# Altium schematic symbol library WE-LQSA.SchLib: 41 symbols
Pins are listed as number, name and electrical type; pins without a type are passive.

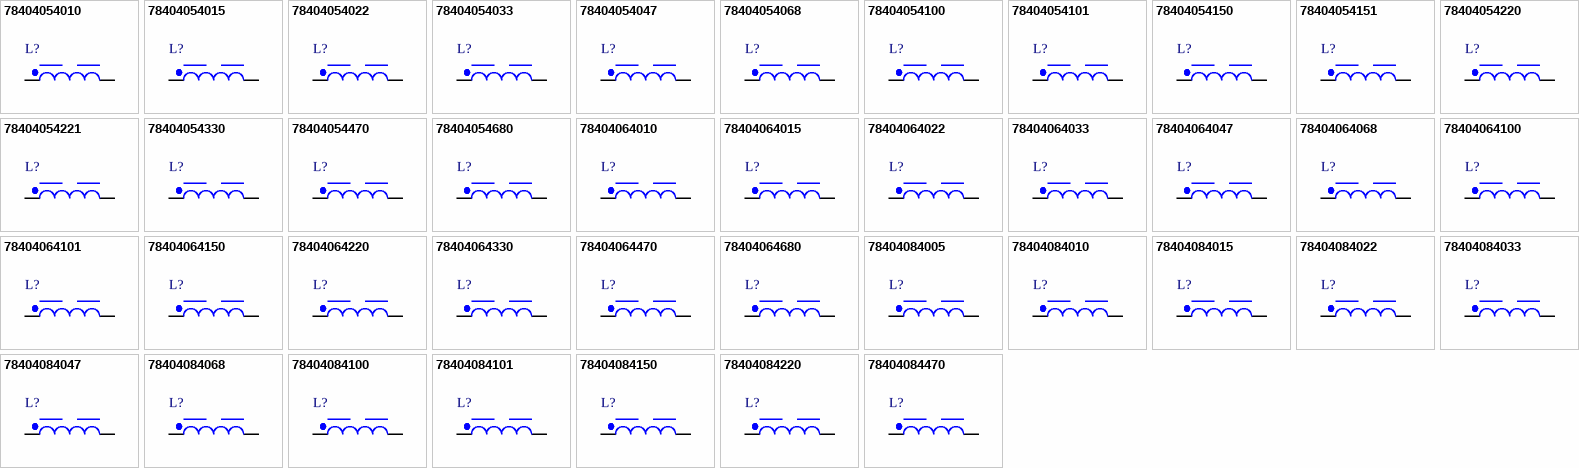
[diagram p0: symbols 78404054010 to 78404084470]

## 78404054010
designator L?, comment 1uH  (value not drawn)
WE-LQSA SMD Semi-Shielded Power Inductor, size 5040, 1uH, 14mohm; Manufacturer Part Number: 78404054010; Manufacturer: Wurth Elektronik; Case/Size Code: 5040; Rated Current: 5.7A; Saturation Current: 7.4A; Self Resonant Frequency: 187MHz; Category: Power Inductors; Match Code: WE-LQSA; ComponentLink1Description: Website Link; ComponentLink1URL: https://www.we-online.com; ComponentLink2Description: Datasheet Link; ComponentLink2URL: https://www.we-online.com/components/products/datasheet/78404054010; Mount: Surface Mount; Operating Temperature Min: -50degC; Operating Temperature Max: 150degC; Packaging: Tape and Reel; Length: 5mm; Width: 5mm; Height: 4mm; DC Resistance Max: 14mohm; Inductance: 1uH
footprint WE-LQSA_5040_IPC
footprint WE-LQSA_5040
simulation model 5040_78404054010_1u
pins: 1, 2

## 78404054015
designator L?, comment 1.5uH  (value not drawn)
WE-LQSA SMD Semi-Shielded Power Inductor, size 5040, 1.5uH, 18mohm; Manufacturer Part Number: 78404054015; Manufacturer: Wurth Elektronik; Case/Size Code: 5040; Rated Current: 5.22A; Saturation Current: 6A; Self Resonant Frequency: 137MHz; Category: Power Inductors; Match Code: WE-LQSA; ComponentLink1Description: Website Link; ComponentLink1URL: https://www.we-online.com; ComponentLink2Description: Datasheet Link; ComponentLink2URL: https://www.we-online.com/components/products/datasheet/78404054015; Mount: Surface Mount; Operating Temperature Min: -50degC; Operating Temperature Max: 150degC; Packaging: Tape and Reel; Length: 5mm; Width: 5mm; Height: 4mm; DC Resistance Max: 18mohm; Inductance: 1.5uH
footprint WE-LQSA_5040_IPC
footprint WE-LQSA_5040
simulation model 5040_78404054015_1.5u
pins: 1, 2

## 78404054022
designator L?, comment 2.2uH  (value not drawn)
WE-LQSA SMD Semi-Shielded Power Inductor, size 5040, 2.2uH, 23mohm; Manufacturer Part Number: 78404054022; Manufacturer: Wurth Elektronik; Case/Size Code: 5040; Rated Current: 4.54A; Saturation Current: 5.3A; Self Resonant Frequency: 77MHz; Category: Power Inductors; Match Code: WE-LQSA; ComponentLink1Description: Website Link; ComponentLink1URL: https://www.we-online.com; ComponentLink2Description: Datasheet Link; ComponentLink2URL: https://www.we-online.com/components/products/datasheet/78404054022; Mount: Surface Mount; Operating Temperature Min: -50degC; Operating Temperature Max: 150degC; Packaging: Tape and Reel; Length: 5mm; Width: 5mm; Height: 4mm; DC Resistance Max: 23mohm; Inductance: 2.2uH
footprint WE-LQSA_5040_IPC
footprint WE-LQSA_5040
simulation model 5040_78404054022_2.2u
pins: 1, 2

## 78404054033
designator L?, comment 3.3uH  (value not drawn)
WE-LQSA SMD Semi-Shielded Power Inductor, size 5040, 3.3uH, 29mohm; Manufacturer Part Number: 78404054033; Manufacturer: Wurth Elektronik; Case/Size Code: 5040; Rated Current: 4.06A; Saturation Current: 4.3A; Self Resonant Frequency: 48MHz; Category: Power Inductors; Match Code: WE-LQSA; ComponentLink1Description: Website Link; ComponentLink1URL: https://www.we-online.com; ComponentLink2Description: Datasheet Link; ComponentLink2URL: https://www.we-online.com/components/products/datasheet/78404054033; Mount: Surface Mount; Operating Temperature Min: -50degC; Operating Temperature Max: 150degC; Packaging: Tape and Reel; Length: 5mm; Width: 5mm; Height: 4mm; DC Resistance Max: 29mohm; Inductance: 3.3uH
footprint WE-LQSA_5040_IPC
footprint WE-LQSA_5040
simulation model 5040_78404054033_3.3u
pins: 1, 2

## 78404054047
designator L?, comment 4.7uH  (value not drawn)
WE-LQSA SMD Semi-Shielded Power Inductor, size 5040, 4.7uH, 36mohm; Manufacturer Part Number: 78404054047; Manufacturer: Wurth Elektronik; Case/Size Code: 5040; Rated Current: 3.64A; Saturation Current: 3.8A; Self Resonant Frequency: 43MHz; Category: Power Inductors; Match Code: WE-LQSA; ComponentLink1Description: Website Link; ComponentLink1URL: https://www.we-online.com; ComponentLink2Description: Datasheet Link; ComponentLink2URL: https://www.we-online.com/components/products/datasheet/78404054047; Mount: Surface Mount; Operating Temperature Min: -50degC; Operating Temperature Max: 150degC; Packaging: Tape and Reel; Length: 5mm; Width: 5mm; Height: 4mm; DC Resistance Max: 36mohm; Inductance: 4.7uH
footprint WE-LQSA_5040_IPC
footprint WE-LQSA_5040
simulation model 5040_78404054047_4.7u
pins: 1, 2

## 78404054068
designator L?, comment 6.8uH  (value not drawn)
WE-LQSA SMD Semi-Shielded Power Inductor, size 5040, 6.8uH, 52mohm; Manufacturer Part Number: 78404054068; Manufacturer: Wurth Elektronik; Case/Size Code: 5040; Rated Current: 3.01A; Saturation Current: 3.2A; Self Resonant Frequency: 35MHz; Category: Power Inductors; Match Code: WE-LQSA; ComponentLink1Description: Website Link; ComponentLink1URL: https://www.we-online.com; ComponentLink2Description: Datasheet Link; ComponentLink2URL: https://www.we-online.com/components/products/datasheet/78404054068; Mount: Surface Mount; Operating Temperature Min: -50degC; Operating Temperature Max: 150degC; Packaging: Tape and Reel; Length: 5mm; Width: 5mm; Height: 4mm; DC Resistance Max: 52mohm; Inductance: 6.8uH
footprint WE-LQSA_5040_IPC
footprint WE-LQSA_5040
simulation model 5040_78404054068_6.8u
pins: 1, 2

## 78404054100
designator L?, comment 10uH  (value not drawn)
WE-LQSA SMD Semi-Shielded Power Inductor, size 5040, 10uH, 82mohm; Manufacturer Part Number: 78404054100; Manufacturer: Wurth Elektronik; Case/Size Code: 5040; Rated Current: 2.45A; Saturation Current: 2.5A; Self Resonant Frequency: 26MHz; Category: Power Inductors; Match Code: WE-LQSA; ComponentLink1Description: Website Link; ComponentLink1URL: https://www.we-online.com; ComponentLink2Description: Datasheet Link; ComponentLink2URL: https://www.we-online.com/components/products/datasheet/78404054100; Mount: Surface Mount; Operating Temperature Min: -50degC; Operating Temperature Max: 150degC; Packaging: Tape and Reel; Length: 5mm; Width: 5mm; Height: 4mm; DC Resistance Max: 82mohm; Inductance: 10uH
footprint WE-LQSA_5040_IPC
footprint WE-LQSA_5040
simulation model 5040_78404054100_10u
pins: 1, 2

## 78404054101
designator L?, comment 100uH  (value not drawn)
WE-LQSA SMD Semi-Shielded Power Inductor, size 5040, 100uH, 720mohm; Manufacturer Part Number: 78404054101; Manufacturer: Wurth Elektronik; Case/Size Code: 5040; Rated Current: 0.82A; Self Resonant Frequency: 7MHz; Category: Power Inductors; Match Code: WE-LQSA; ComponentLink1Description: Website Link; ComponentLink1URL: https://www.we-online.com; ComponentLink2Description: Datasheet Link; ComponentLink2URL: https://www.we-online.com/components/products/datasheet/78404054101; Mount: Surface Mount; Operating Temperature Min: -50degC; Operating Temperature Max: 150degC; Packaging: Tape and Reel; Length: 5mm; Width: 5mm; Height: 4mm; DC Resistance Max: 720mohm; Inductance: 100uH; Saturation Current: 0.82A
footprint WE-LQSA_5040_IPC
footprint WE-LQSA_5040
simulation model 5040_78404054101_100u
pins: 1, 2

## 78404054150
designator L?, comment 15uH  (value not drawn)
WE-LQSA SMD Semi-Shielded Power Inductor, size 5040, 15uH, 108mohm; Manufacturer Part Number: 78404054150; Manufacturer: Wurth Elektronik; Case/Size Code: 5040; Rated Current: 2.01A; Saturation Current: 2.2A; Self Resonant Frequency: 22MHz; Category: Power Inductors; Match Code: WE-LQSA; ComponentLink1Description: Website Link; ComponentLink1URL: https://www.we-online.com; ComponentLink2Description: Datasheet Link; ComponentLink2URL: https://www.we-online.com/components/products/datasheet/78404054150; Mount: Surface Mount; Operating Temperature Min: -50degC; Operating Temperature Max: 150degC; Packaging: Tape and Reel; Length: 5mm; Width: 5mm; Height: 4mm; DC Resistance Max: 108mohm; Inductance: 15uH
footprint WE-LQSA_5040_IPC
footprint WE-LQSA_5040
simulation model 5040_78404054150_15u
pins: 1, 2

## 78404054151
designator L?, comment 150uH  (value not drawn)
WE-LQSA SMD Semi-Shielded Power Inductor, size 5040, 150uH, 972mohm; Manufacturer Part Number: 78404054151; Manufacturer: Wurth Elektronik; Case/Size Code: 5040; Rated Current: 0.67A; Saturation Current: 0.72A; Self Resonant Frequency: 6.3MHz; Category: Power Inductors; Match Code: WE-LQSA; ComponentLink1Description: Website Link; ComponentLink1URL: https://www.we-online.com; ComponentLink2Description: Datasheet Link; ComponentLink2URL: https://www.we-online.com/components/products/datasheet/78404054151; Mount: Surface Mount; Operating Temperature Min: -50degC; Operating Temperature Max: 150degC; Packaging: Tape and Reel; Length: 5mm; Width: 5mm; Height: 4mm; DC Resistance Max: 972mohm; Inductance: 150uH
footprint WE-LQSA_5040_IPC
footprint WE-LQSA_5040
simulation model 5040_78404054151_150u
pins: 1, 2

## 78404054220
designator L?, comment 22uH  (value not drawn)
WE-LQSA SMD Semi-Shielded Power Inductor, size 5040, 22uH, 155mohm; Manufacturer Part Number: 78404054220; Manufacturer: Wurth Elektronik; Case/Size Code: 5040; Rated Current: 1.75A; Saturation Current: 1.7A; Self Resonant Frequency: 17MHz; Category: Power Inductors; Match Code: WE-LQSA; ComponentLink1Description: Website Link; ComponentLink1URL: https://www.we-online.com; ComponentLink2Description: Datasheet Link; ComponentLink2URL: https://www.we-online.com/components/products/datasheet/78404054220; Mount: Surface Mount; Operating Temperature Min: -50degC; Operating Temperature Max: 150degC; Packaging: Tape and Reel; Length: 5mm; Width: 5mm; Height: 4mm; DC Resistance Max: 155mohm; Inductance: 22uH
footprint WE-LQSA_5040_IPC
footprint WE-LQSA_5040
simulation model 5040_78404054220_22u
pins: 1, 2

## 78404054221
designator L?, comment 220uH  (value not drawn)
WE-LQSA SMD Semi-Shielded Power Inductor, size 5040, 220uH, 1680mohm; Manufacturer Part Number: 78404054221; Manufacturer: Wurth Elektronik; Case/Size Code: 5040; Rated Current: 0.56A; Saturation Current: 0.55A; Self Resonant Frequency: 4.5MHz; Category: Power Inductors; Match Code: WE-LQSA; ComponentLink1Description: Website Link; ComponentLink1URL: https://www.we-online.com; ComponentLink2Description: Datasheet Link; ComponentLink2URL: https://www.we-online.com/components/products/datasheet/78404054221; Mount: Surface Mount; Operating Temperature Min: -50degC; Operating Temperature Max: 150degC; Packaging: Tape and Reel; Length: 5mm; Width: 5mm; Height: 4mm; DC Resistance Max: 1680mohm; Inductance: 220uH
footprint WE-LQSA_5040_IPC
footprint WE-LQSA_5040
simulation model 5040_78404054221_220u
pins: 1, 2

## 78404054330
designator L?, comment 33uH  (value not drawn)
WE-LQSA SMD Semi-Shielded Power Inductor, size 5040, 33uH, 226mohm; Manufacturer Part Number: 78404054330; Manufacturer: Wurth Elektronik; Case/Size Code: 5040; Rated Current: 1.43A; Saturation Current: 1.4A; Self Resonant Frequency: 13MHz; Category: Power Inductors; Match Code: WE-LQSA; ComponentLink1Description: Website Link; ComponentLink1URL: https://www.we-online.com; ComponentLink2Description: Datasheet Link; ComponentLink2URL: https://www.we-online.com/components/products/datasheet/78404054330; Mount: Surface Mount; Operating Temperature Min: -50degC; Operating Temperature Max: 150degC; Packaging: Tape and Reel; Length: 5mm; Width: 5mm; Height: 4mm; DC Resistance Max: 226mohm; Inductance: 33uH
footprint WE-LQSA_5040_IPC
footprint WE-LQSA_5040
simulation model 5040_78404054330_33u
pins: 1, 2

## 78404054470
designator L?, comment 47uH  (value not drawn)
WE-LQSA SMD Semi-Shielded Power Inductor, size 5040, 47uH, 348mohm; Manufacturer Part Number: 78404054470; Manufacturer: Wurth Elektronik; Case/Size Code: 5040; Rated Current: 1.19A; Saturation Current: 1.2A; Self Resonant Frequency: 10MHz; Category: Power Inductors; Match Code: WE-LQSA; ComponentLink1Description: Website Link; ComponentLink1URL: https://www.we-online.com; ComponentLink2Description: Datasheet Link; ComponentLink2URL: https://www.we-online.com/components/products/datasheet/78404054470; Mount: Surface Mount; Operating Temperature Min: -50degC; Operating Temperature Max: 150degC; Packaging: Tape and Reel; Length: 5mm; Width: 5mm; Height: 4mm; DC Resistance Max: 348mohm; Inductance: 47uH
footprint WE-LQSA_5040_IPC
footprint WE-LQSA_5040
simulation model 5040_78404054470_47u
pins: 1, 2

## 78404054680
designator L?, comment 68uH  (value not drawn)
WE-LQSA SMD Semi-Shielded Power Inductor, size 5040, 68uH, 516mohm; Manufacturer Part Number: 78404054680; Manufacturer: Wurth Elektronik; Case/Size Code: 5040; Rated Current: 0.97A; Saturation Current: 0.99A; Self Resonant Frequency: 9MHz; Category: Power Inductors; Match Code: WE-LQSA; ComponentLink1Description: Website Link; ComponentLink1URL: https://www.we-online.com; ComponentLink2Description: Datasheet Link; ComponentLink2URL: https://www.we-online.com/components/products/datasheet/78404054680; Mount: Surface Mount; Operating Temperature Min: -50degC; Operating Temperature Max: 150degC; Packaging: Tape and Reel; Length: 5mm; Width: 5mm; Height: 4mm; DC Resistance Max: 516mohm; Inductance: 68uH
footprint WE-LQSA_5040_IPC
footprint WE-LQSA_5040
simulation model 5040_78404054680_68u
pins: 1, 2

## 78404064010
designator L?, comment 1uH  (value not drawn)
WE-LQSA SMD Semi-Shielded Power Inductor, size 6045, 1uH, 11mohm; Manufacturer Part Number: 78404064010; Manufacturer: Wurth Elektronik; Case/Size Code: 6045; Rated Current: 6.7A; Saturation Current: 11.5A; Self Resonant Frequency: 159MHz; Category: Power Inductors; Match Code: WE-LQSA; ComponentLink1Description: Website Link; ComponentLink1URL: https://www.we-online.com; ComponentLink2Description: Datasheet Link; ComponentLink2URL: https://www.we-online.com/components/products/datasheet/78404064010; Mount: Surface Mount; Operating Temperature Min: -50degC; Operating Temperature Max: 150degC; Packaging: Tape and Reel; Length: 6mm; Width: 6mm; Height: 4.6mm; DC Resistance Max: 11mohm; Inductance: 1uH
footprint WE-LQSA_6045_IPC
footprint WE-LQSA_6045
simulation model 6045_78404064010_1u
pins: 1, 2

## 78404064015
designator L?, comment 1.5uH  (value not drawn)
WE-LQSA SMD Semi-Shielded Power Inductor, size 6045, 1.5uH, 13mohm; Manufacturer Part Number: 78404064015; Manufacturer: Wurth Elektronik; Case/Size Code: 6045; Rated Current: 6.1A; Saturation Current: 9.7A; Self Resonant Frequency: 115MHz; Category: Power Inductors; Match Code: WE-LQSA; ComponentLink1Description: Website Link; ComponentLink1URL: https://www.we-online.com; ComponentLink2Description: Datasheet Link; ComponentLink2URL: https://www.we-online.com/components/products/datasheet/78404064015; Mount: Surface Mount; Operating Temperature Min: -50degC; Operating Temperature Max: 150degC; Packaging: Tape and Reel; Length: 6mm; Width: 6mm; Height: 4.6mm; DC Resistance Max: 13mohm; Inductance: 1.5uH
footprint WE-LQSA_6045_IPC
footprint WE-LQSA_6045
simulation model 6045_78404064015_1.5u
pins: 1, 2

## 78404064022
designator L?, comment 2.2uH  (value not drawn)
WE-LQSA SMD Semi-Shielded Power Inductor, size 6045, 2.2uH, 17mohm; Manufacturer Part Number: 78404064022; Manufacturer: Wurth Elektronik; Case/Size Code: 6045; Rated Current: 5.3A; Saturation Current: 8.1A; Self Resonant Frequency: 60MHz; Category: Power Inductors; Match Code: WE-LQSA; ComponentLink1Description: Website Link; ComponentLink1URL: https://www.we-online.com; ComponentLink2Description: Datasheet Link; ComponentLink2URL: https://www.we-online.com/components/products/datasheet/78404064022; Mount: Surface Mount; Operating Temperature Min: -50degC; Operating Temperature Max: 150degC; Packaging: Tape and Reel; Length: 6mm; Width: 6mm; Height: 4.6mm; DC Resistance Max: 17mohm; Inductance: 2.2uH
footprint WE-LQSA_6045_IPC
footprint WE-LQSA_6045
simulation model 6045_78404064022_2.2u
pins: 1, 2

## 78404064033
designator L?, comment 3.3uH  (value not drawn)
WE-LQSA SMD Semi-Shielded Power Inductor, size 6045, 3.3uH, 28mohm; Manufacturer Part Number: 78404064033; Manufacturer: Wurth Elektronik; Case/Size Code: 6045; Rated Current: 4.1A; Saturation Current: 6.5A; Self Resonant Frequency: 42MHz; Category: Power Inductors; Match Code: WE-LQSA; ComponentLink1Description: Website Link; ComponentLink1URL: https://www.we-online.com; ComponentLink2Description: Datasheet Link; ComponentLink2URL: https://www.we-online.com/components/products/datasheet/78404064033; Mount: Surface Mount; Operating Temperature Min: -50degC; Operating Temperature Max: 150degC; Packaging: Tape and Reel; Length: 6mm; Width: 6mm; Height: 4.6mm; DC Resistance Max: 28mohm; Inductance: 3.3uH
footprint WE-LQSA_6045_IPC
footprint WE-LQSA_6045
simulation model 6045_78404064033_3.3u
pins: 1, 2

## 78404064047
designator L?, comment 4.7uH  (value not drawn)
WE-LQSA SMD Semi-Shielded Power Inductor, size 6045, 4.7uH, 34mohm; Manufacturer Part Number: 78404064047; Manufacturer: Wurth Elektronik; Case/Size Code: 6045; Rated Current: 3.7A; Saturation Current: 5.5A; Self Resonant Frequency: 36MHz; Category: Power Inductors; Match Code: WE-LQSA; ComponentLink1Description: Website Link; ComponentLink1URL: https://www.we-online.com; ComponentLink2Description: Datasheet Link; ComponentLink2URL: https://www.we-online.com/components/products/datasheet/78404064047; Mount: Surface Mount; Operating Temperature Min: -50degC; Operating Temperature Max: 150degC; Packaging: Tape and Reel; Length: 6mm; Width: 6mm; Height: 4.6mm; DC Resistance Max: 34mohm; Inductance: 4.7uH
footprint WE-LQSA_6045_IPC
footprint WE-LQSA_6045
simulation model 6045_78404064047_4.7u
pins: 1, 2

## 78404064068
designator L?, comment 6.8uH  (value not drawn)
WE-LQSA SMD Semi-Shielded Power Inductor, size 6045, 6.8uH, 42mohm; Manufacturer Part Number: 78404064068; Manufacturer: Wurth Elektronik; Case/Size Code: 6045; Rated Current: 3.3A; Saturation Current: 4.3A; Self Resonant Frequency: 27MHz; Category: Power Inductors; Match Code: WE-LQSA; ComponentLink1Description: Website Link; ComponentLink1URL: https://www.we-online.com; ComponentLink2Description: Datasheet Link; ComponentLink2URL: https://www.we-online.com/components/products/datasheet/78404064068; Mount: Surface Mount; Operating Temperature Min: -50degC; Operating Temperature Max: 150degC; Packaging: Tape and Reel; Length: 6mm; Width: 6mm; Height: 4.6mm; DC Resistance Max: 42mohm; Inductance: 6.8uH
footprint WE-LQSA_6045_IPC
footprint WE-LQSA_6045
simulation model 6045_78404064068_6.8u
pins: 1, 2

## 78404064100
designator L?, comment 10uH  (value not drawn)
WE-LQSA SMD Semi-Shielded Power Inductor, size 6045, 10uH, 58mohm; Manufacturer Part Number: 78404064100; Manufacturer: Wurth Elektronik; Case/Size Code: 6045; Rated Current: 2.8A; Saturation Current: 3.5A; Self Resonant Frequency: 22MHz; Category: Power Inductors; Match Code: WE-LQSA; ComponentLink1Description: Website Link; ComponentLink1URL: https://www.we-online.com; ComponentLink2Description: Datasheet Link; ComponentLink2URL: https://www.we-online.com/components/products/datasheet/78404064100; Mount: Surface Mount; Operating Temperature Min: -50degC; Operating Temperature Max: 150degC; Packaging: Tape and Reel; Length: 6mm; Width: 6mm; Height: 4.6mm; DC Resistance Max: 58mohm; Inductance: 10uH
footprint WE-LQSA_6045_IPC
footprint WE-LQSA_6045
simulation model 6045_78404064100_10u
pins: 1, 2

## 78404064101
designator L?, comment 100uH  (value not drawn)
WE-LQSA SMD Semi-Shielded Power Inductor, size 6045, 100uH, 532mohm; Manufacturer Part Number: 78404064101; Manufacturer: Wurth Elektronik; Case/Size Code: 6045; Rated Current: 0.9A; Saturation Current: 1.2A; Self Resonant Frequency: 6MHz; Category: Power Inductors; Match Code: WE-LQSA; ComponentLink1Description: Website Link; ComponentLink1URL: https://www.we-online.com; ComponentLink2Description: Datasheet Link; ComponentLink2URL: https://www.we-online.com/components/products/datasheet/78404064101; Mount: Surface Mount; Operating Temperature Min: -50degC; Operating Temperature Max: 150degC; Packaging: Tape and Reel; Length: 6mm; Width: 6mm; Height: 4.6mm; DC Resistance Max: 532mohm; Inductance: 100uH
footprint WE-LQSA_6045_IPC
footprint WE-LQSA_6045
simulation model 6045_78404064101_100u
pins: 1, 2

## 78404064150
designator L?, comment 15uH  (value not drawn)
WE-LQSA SMD Semi-Shielded Power Inductor, size 6045, 15uH, 88mohm; Manufacturer Part Number: 78404064150; Manufacturer: Wurth Elektronik; Case/Size Code: 6045; Rated Current: 2.4A; Saturation Current: 3A; Self Resonant Frequency: 17MHz; Category: Power Inductors; Match Code: WE-LQSA; ComponentLink1Description: Website Link; ComponentLink1URL: https://www.we-online.com; ComponentLink2Description: Datasheet Link; ComponentLink2URL: https://www.we-online.com/components/products/datasheet/78404064150; Mount: Surface Mount; Operating Temperature Min: -50degC; Operating Temperature Max: 150degC; Packaging: Tape and Reel; Length: 6mm; Width: 6mm; Height: 4.6mm; DC Resistance Max: 88mohm; Inductance: 15uH
footprint WE-LQSA_6045_IPC
footprint WE-LQSA_6045
simulation model 6045_78404064150_15u
pins: 1, 2

## 78404064220
designator L?, comment 22uH  (value not drawn)
WE-LQSA SMD Semi-Shielded Power Inductor, size 6045, 22uH, 120mohm; Manufacturer Part Number: 78404064220; Manufacturer: Wurth Elektronik; Case/Size Code: 6045; Rated Current: 1.9A; Saturation Current: 2.5A; Self Resonant Frequency: 15MHz; Category: Power Inductors; Match Code: WE-LQSA; ComponentLink1Description: Website Link; ComponentLink1URL: https://www.we-online.com; ComponentLink2Description: Datasheet Link; ComponentLink2URL: https://www.we-online.com/components/products/datasheet/78404064220; Mount: Surface Mount; Operating Temperature Min: -50degC; Operating Temperature Max: 150degC; Packaging: Tape and Reel; Length: 6mm; Width: 6mm; Height: 4.6mm; DC Resistance Max: 120mohm; Inductance: 22uH
footprint WE-LQSA_6045_IPC
footprint WE-LQSA_6045
simulation model 6045_78404064220_22u
pins: 1, 2

## 78404064330
designator L?, comment 33uH  (value not drawn)
WE-LQSA SMD Semi-Shielded Power Inductor, size 6045, 33uH, 168mohm; Manufacturer Part Number: 78404064330; Manufacturer: Wurth Elektronik; Case/Size Code: 6045; Rated Current: 1.7A; Saturation Current: 2A; Self Resonant Frequency: 12MHz; Category: Power Inductors; Match Code: WE-LQSA; ComponentLink1Description: Website Link; ComponentLink1URL: https://www.we-online.com; ComponentLink2Description: Datasheet Link; ComponentLink2URL: https://www.we-online.com/components/products/datasheet/78404064330; Mount: Surface Mount; Operating Temperature Min: -50degC; Operating Temperature Max: 150degC; Packaging: Tape and Reel; Length: 6mm; Width: 6mm; Height: 4.6mm; DC Resistance Max: 168mohm; Inductance: 33uH
footprint WE-LQSA_6045_IPC
footprint WE-LQSA_6045
simulation model 6045_78404064330_33u
pins: 1, 2

## 78404064470
designator L?, comment 47uH  (value not drawn)
WE-LQSA SMD Semi-Shielded Power Inductor, size 6045, 47uH, 252mohm; Manufacturer Part Number: 78404064470; Manufacturer: Wurth Elektronik; Case/Size Code: 6045; Rated Current: 1.4A; Saturation Current: 1.6A; Self Resonant Frequency: 10MHz; Category: Power Inductors; Match Code: WE-LQSA; ComponentLink1Description: Website Link; ComponentLink1URL: https://www.we-online.com; ComponentLink2Description: Datasheet Link; ComponentLink2URL: https://www.we-online.com/components/products/datasheet/78404064470; Mount: Surface Mount; Operating Temperature Min: -50degC; Operating Temperature Max: 150degC; Packaging: Tape and Reel; Length: 6mm; Width: 6mm; Height: 4.6mm; DC Resistance Max: 252mohm; Inductance: 47uH
footprint WE-LQSA_6045_IPC
footprint WE-LQSA_6045
simulation model 6045_78404064470_47u
pins: 1, 2

## 78404064680
designator L?, comment 68uH  (value not drawn)
WE-LQSA SMD Semi-Shielded Power Inductor, size 6045, 68uH, 367mohm; Manufacturer Part Number: 78404064680; Manufacturer: Wurth Elektronik; Case/Size Code: 6045; Rated Current: 1.1A; Saturation Current: 1.4A; Self Resonant Frequency: 8MHz; Category: Power Inductors; Match Code: WE-LQSA; ComponentLink1Description: Website Link; ComponentLink1URL: https://www.we-online.com; ComponentLink2Description: Datasheet Link; ComponentLink2URL: https://www.we-online.com/components/products/datasheet/78404064680; Mount: Surface Mount; Operating Temperature Min: -50degC; Operating Temperature Max: 150degC; Packaging: Tape and Reel; Length: 6mm; Width: 6mm; Height: 4.6mm; DC Resistance Max: 367mohm; Inductance: 68uH
footprint WE-LQSA_6045_IPC
footprint WE-LQSA_6045
simulation model 6045_78404064680_68u
pins: 1, 2

## 78404084005
designator L?, comment 0.5uH  (value not drawn)
WE-LQSA SMD Semi-Shielded Power Inductor, size 8040, 0.5uH, 8.4mohm; Manufacturer Part Number: 78404084005; Manufacturer: Wurth Elektronik; Case/Size Code: 8040; Rated Current: 8.7A; Saturation Current: 18.5A; Self Resonant Frequency: 189MHz; Category: Power Inductors; Match Code: WE-LQSA; ComponentLink1Description: Website Link; ComponentLink1URL: https://www.we-online.com; ComponentLink2Description: Datasheet Link; ComponentLink2URL: https://www.we-online.com/components/products/datasheet/78404084005; Mount: Surface Mount; Operating Temperature Min: -50degC; Operating Temperature Max: 150degC; Packaging: Tape and Reel; Length: 8mm; Width: 8mm; Height: 4.2mm; DC Resistance Max: 8.4mohm; Inductance: 0.5uH
footprint WE-LQSA_8040_IPC
footprint WE-LQSA_8040
pins: 1, 2

## 78404084010
designator L?, comment 1uH  (value not drawn)
WE-LQSA SMD Semi-Shielded Power Inductor, size 8040, 1uH, 10mohm; Manufacturer Part Number: 78404084010; Manufacturer: Wurth Elektronik; Case/Size Code: 8040; Rated Current: 8.2A; Saturation Current: 14.5A; Self Resonant Frequency: 127MHz; Category: Power Inductors; Match Code: WE-LQSA; ComponentLink1Description: Website Link; ComponentLink1URL: https://www.we-online.com; ComponentLink2Description: Datasheet Link; ComponentLink2URL: https://www.we-online.com/components/products/datasheet/78404084010; Mount: Surface Mount; Operating Temperature Min: -50degC; Operating Temperature Max: 150degC; Packaging: Tape and Reel; Length: 8mm; Width: 8mm; Height: 4.2mm; DC Resistance Max: 10mohm; Inductance: 1uH
footprint WE-LQSA_8040_IPC
footprint WE-LQSA_8040
simulation model 8040_78404084010_1u
pins: 1, 2

## 78404084015
designator L?, comment 1.5uH  (value not drawn)
WE-LQSA SMD Semi-Shielded Power Inductor, size 8040, 1.5uH, 12mohm; Manufacturer Part Number: 78404084015; Manufacturer: Wurth Elektronik; Case/Size Code: 8040; Rated Current: 7.7A; Saturation Current: 11.7A; Self Resonant Frequency: 95MHz; Category: Power Inductors; Match Code: WE-LQSA; ComponentLink1Description: Website Link; ComponentLink1URL: https://www.we-online.com; ComponentLink2Description: Datasheet Link; ComponentLink2URL: https://www.we-online.com/components/products/datasheet/78404084015; Mount: Surface Mount; Operating Temperature Min: -50degC; Operating Temperature Max: 150degC; Packaging: Tape and Reel; Length: 8mm; Width: 8mm; Height: 4.2mm; DC Resistance Max: 12mohm; Inductance: 1.5uH
footprint WE-LQSA_8040_IPC
footprint WE-LQSA_8040
simulation model 8040_78404084015_1.5u
pins: 1, 2

## 78404084022
designator L?, comment 2.2uH  (value not drawn)
WE-LQSA SMD Semi-Shielded Power Inductor, size 8040, 2.2uH, 15mohm; Manufacturer Part Number: 78404084022; Manufacturer: Wurth Elektronik; Case/Size Code: 8040; Rated Current: 7A; Saturation Current: 9.8A; Self Resonant Frequency: 57MHz; Category: Power Inductors; Match Code: WE-LQSA; ComponentLink1Description: Website Link; ComponentLink1URL: https://www.we-online.com; ComponentLink2Description: Datasheet Link; ComponentLink2URL: https://www.we-online.com/components/products/datasheet/78404084022; Mount: Surface Mount; Operating Temperature Min: -50degC; Operating Temperature Max: 150degC; Packaging: Tape and Reel; Length: 8mm; Width: 8mm; Height: 4.2mm; DC Resistance Max: 15mohm; Inductance: 2.2uH
footprint WE-LQSA_8040_IPC
footprint WE-LQSA_8040
simulation model 8040_78404084022_2.2u
pins: 1, 2

## 78404084033
designator L?, comment 3.3uH  (value not drawn)
WE-LQSA SMD Semi-Shielded Power Inductor, size 8040, 3.3uH, 21mohm; Manufacturer Part Number: 78404084033; Manufacturer: Wurth Elektronik; Case/Size Code: 8040; Rated Current: 5.7A; Saturation Current: 7.5A; Self Resonant Frequency: 42MHz; Category: Power Inductors; Match Code: WE-LQSA; ComponentLink1Description: Website Link; ComponentLink1URL: https://www.we-online.com; ComponentLink2Description: Datasheet Link; ComponentLink2URL: https://www.we-online.com/components/products/datasheet/78404084033; Mount: Surface Mount; Operating Temperature Min: -50degC; Operating Temperature Max: 150degC; Packaging: Tape and Reel; Length: 8mm; Width: 8mm; Height: 4.2mm; DC Resistance Max: 21mohm; Inductance: 3.3uH
footprint WE-LQSA_8040_IPC
footprint WE-LQSA_8040
simulation model 8040_78404084033_3.3u
pins: 1, 2

## 78404084047
designator L?, comment 4.7uH  (value not drawn)
WE-LQSA SMD Semi-Shielded Power Inductor, size 8040, 4.7uH, 23mohm; Manufacturer Part Number: 78404084047; Manufacturer: Wurth Elektronik; Case/Size Code: 8040; Rated Current: 5.3A; Saturation Current: 6.8A; Self Resonant Frequency: 35MHz; Category: Power Inductors; Match Code: WE-LQSA; ComponentLink1Description: Website Link; ComponentLink1URL: https://www.we-online.com; ComponentLink2Description: Datasheet Link; ComponentLink2URL: https://www.we-online.com/components/products/datasheet/78404084047; Mount: Surface Mount; Operating Temperature Min: -50degC; Operating Temperature Max: 150degC; Packaging: Tape and Reel; Length: 8mm; Width: 8mm; Height: 4.2mm; DC Resistance Max: 23mohm; Inductance: 4.7uH
footprint WE-LQSA_8040_IPC
footprint WE-LQSA_8040
simulation model 8040_78404084047_4.7u
pins: 1, 2

## 78404084068
designator L?, comment 6.8uH  (value not drawn)
WE-LQSA SMD Semi-Shielded Power Inductor, size 8040, 6.8uH, 29mohm; Manufacturer Part Number: 78404084068; Manufacturer: Wurth Elektronik; Case/Size Code: 8040; Rated Current: 4.9A; Saturation Current: 5.8A; Self Resonant Frequency: 27MHz; Category: Power Inductors; Match Code: WE-LQSA; ComponentLink1Description: Website Link; ComponentLink1URL: https://www.we-online.com; ComponentLink2Description: Datasheet Link; ComponentLink2URL: https://www.we-online.com/components/products/datasheet/78404084068; Mount: Surface Mount; Operating Temperature Min: -50degC; Operating Temperature Max: 150degC; Packaging: Tape and Reel; Length: 8mm; Width: 8mm; Height: 4.2mm; DC Resistance Max: 29mohm; Inductance: 6.8uH
footprint WE-LQSA_8040_IPC
footprint WE-LQSA_8040
simulation model 8040_78404084068_6.8u
pins: 1, 2

## 78404084100
designator L?, comment 10uH  (value not drawn)
WE-LQSA SMD Semi-Shielded Power Inductor, size 8040, 10uH, 35mohm; Manufacturer Part Number: 78404084100; Manufacturer: Wurth Elektronik; Case/Size Code: 8040; Rated Current: 4.35A; Saturation Current: 5A; Self Resonant Frequency: 23MHz; Category: Power Inductors; Match Code: WE-LQSA; ComponentLink1Description: Website Link; ComponentLink1URL: https://www.we-online.com; ComponentLink2Description: Datasheet Link; ComponentLink2URL: https://www.we-online.com/components/products/datasheet/78404084100; Mount: Surface Mount; Operating Temperature Min: -50degC; Operating Temperature Max: 150degC; Packaging: Tape and Reel; Length: 8mm; Width: 8mm; Height: 4.2mm; DC Resistance Max: 35mohm; Inductance: 10uH
footprint WE-LQSA_8040_IPC
footprint WE-LQSA_8040
simulation model 8040_78404084100_10u
pins: 1, 2

## 78404084101
designator L?, comment 100uH  (value not drawn)
WE-LQSA SMD Semi-Shielded Power Inductor, size 8040, 100uH, 348mohm; Manufacturer Part Number: 78404084101; Manufacturer: Wurth Elektronik; Case/Size Code: 8040; Rated Current: 1.45A; Saturation Current: 1.5A; Self Resonant Frequency: 6.4MHz; Category: Power Inductors; Match Code: WE-LQSA; ComponentLink1Description: Website Link; ComponentLink1URL: https://www.we-online.com; ComponentLink2Description: Datasheet Link; ComponentLink2URL: https://www.we-online.com/components/products/datasheet/78404084101; Mount: Surface Mount; Operating Temperature Min: -50degC; Operating Temperature Max: 150degC; Packaging: Tape and Reel; Length: 8mm; Width: 8mm; Height: 4.2mm; DC Resistance Max: 348mohm; Inductance: 100uH
footprint WE-LQSA_8040_IPC
footprint WE-LQSA_8040
simulation model 8040_78404084101_100u
pins: 1, 2

## 78404084150
designator L?, comment 15uH  (value not drawn)
WE-LQSA SMD Semi-Shielded Power Inductor, size 8040, 15uH, 60mohm; Manufacturer Part Number: 78404084150; Manufacturer: Wurth Elektronik; Case/Size Code: 8040; Rated Current: 3.75A; Saturation Current: 3.9A; Self Resonant Frequency: 17MHz; Category: Power Inductors; Match Code: WE-LQSA; ComponentLink1Description: Website Link; ComponentLink1URL: https://www.we-online.com; ComponentLink2Description: Datasheet Link; ComponentLink2URL: https://www.we-online.com/components/products/datasheet/78404084150; Mount: Surface Mount; Operating Temperature Min: -50degC; Operating Temperature Max: 150degC; Packaging: Tape and Reel; Length: 8mm; Width: 8mm; Height: 4.2mm; DC Resistance Max: 60mohm; Inductance: 15uH
footprint WE-LQSA_8040_IPC
footprint WE-LQSA_8040
simulation model 8040_78404084150_15u
pins: 1, 2

## 78404084220
designator L?, comment 22uH  (value not drawn)
WE-LQSA SMD Semi-Shielded Power Inductor, size 8040, 22uH, 85mohm; Manufacturer Part Number: 78404084220; Manufacturer: Wurth Elektronik; Case/Size Code: 8040; Rated Current: 3.2A; Self Resonant Frequency: 15MHz; Category: Power Inductors; Match Code: WE-LQSA; ComponentLink1Description: Website Link; ComponentLink1URL: https://www.we-online.com; ComponentLink2Description: Datasheet Link; ComponentLink2URL: https://www.we-online.com/components/products/datasheet/78404084220; Mount: Surface Mount; Operating Temperature Min: -50degC; Operating Temperature Max: 150degC; Packaging: Tape and Reel; Length: 8mm; Width: 8mm; Height: 4.2mm; DC Resistance Max: 85mohm; Inductance: 22uH; Saturation Current: 3.2A
footprint WE-LQSA_8040_IPC
footprint WE-LQSA_8040
simulation model 8040_78404084220_22u
pins: 1, 2

## 78404084470
designator L?, comment 47uH  (value not drawn)
WE-LQSA SMD Semi-Shielded Power Inductor, size 8040, 47uH, 168mohm; Manufacturer Part Number: 78404084470; Manufacturer: Wurth Elektronik; Case/Size Code: 8040; Rated Current: 2.23A; Saturation Current: 2.18A; Self Resonant Frequency: 10MHz; Category: Power Inductors; Match Code: WE-LQSA; ComponentLink1Description: Website Link; ComponentLink1URL: https://www.we-online.com; ComponentLink2Description: Datasheet Link; ComponentLink2URL: https://www.we-online.com/components/products/datasheet/78404084470; Mount: Surface Mount; Operating Temperature Min: -50degC; Operating Temperature Max: 150degC; Packaging: Tape and Reel; Length: 8mm; Width: 8mm; Height: 4.2mm; DC Resistance Max: 168mohm; Inductance: 47uH
footprint WE-LQSA_8040_IPC
footprint WE-LQSA_8040
simulation model 8040_78404084470_33u
pins: 1, 2

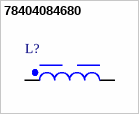
[diagram p1: symbol 78404084680]

## 78404084680
designator L?, comment 68uH  (value not drawn)
WE-LQSA SMD Semi-Shielded Power Inductor, size 8040, 68uH, 245mohm; Manufacturer Part Number: 78404084680; Manufacturer: Wurth Elektronik; Case/Size Code: 8040; Rated Current: 1.8A; Saturation Current: 1.82A; Self Resonant Frequency: 8MHz; Category: Power Inductors; Match Code: WE-LQSA; ComponentLink1Description: Website Link; ComponentLink1URL: https://www.we-online.com; ComponentLink2Description: Datasheet Link; ComponentLink2URL: https://www.we-online.com/components/products/datasheet/78404084680; Mount: Surface Mount; Operating Temperature Min: -50degC; Operating Temperature Max: 150degC; Packaging: Tape and Reel; Length: 8mm; Width: 8mm; Height: 4.2mm; DC Resistance Max: 245mohm; Inductance: 68uH
footprint WE-LQSA_8040_IPC
footprint WE-LQSA_8040
simulation model 8040_78404084680_47u
pins: 1, 2